# EAGLE library part MAX4866-DFN (library zz-upenn)
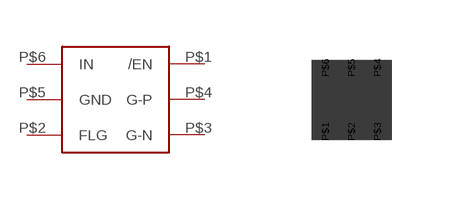
[diagram p4: symbol with the pads of UDFN-6; footprint UDFN-6]

Designator prefix -

## MAX4866-DFN  [UDFN-6]
P$1  /EN
P$2  FLG
P$3  G-N
P$4  G-P
P$5  GND
P$6  IN

## Footprint UDFN-6 (pad centres in mm)
smd 0.3 x 0.4: P$1 -0.65,-0.8; P$2 0,-0.8; P$3 0.65,-0.8; P$4 0.65,0.8; P$5 0,0.8; P$6 -0.65,0.8